# Altium schematic symbol library ComponentsLIB.SchLib: 16 symbols
Pins are listed as number, name and electrical type; pins without a type are passive.

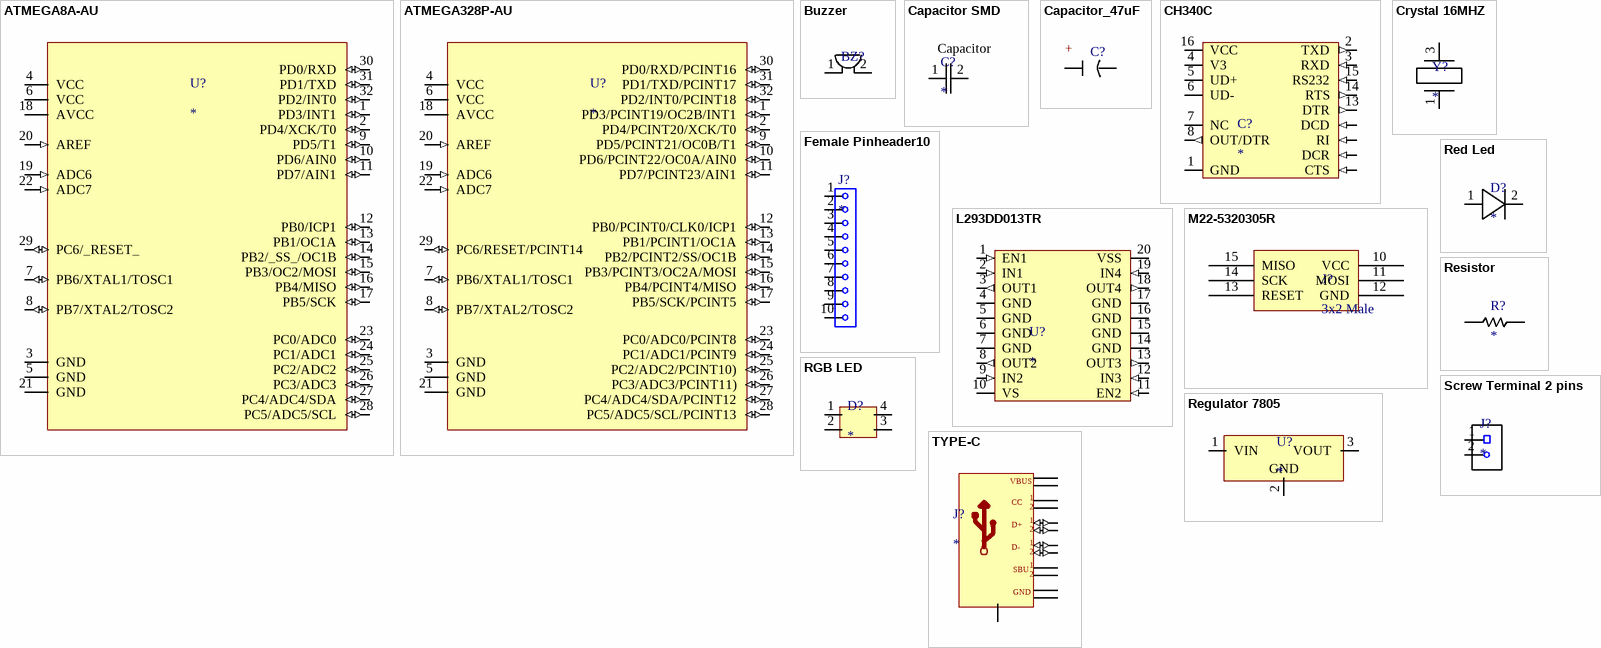
[diagram p0: symbols ATMEGA8A-AU to TYPE-C]

## ATMEGA8A-AU
designator U?
8KB 1KB FLASH 23 2.7V~5.5V AVR 16MHz TQFP-32(7x7) Microcontrollers (MCU/MPU/SOC) ROHS; Manufacturer: Microchip Tech; Manufacturer Part Number: ATMEGA8A-AU; Supplier: LSCS ELECTRONICS; Supplier Part Number: C16190
footprint ATMEGA8A-AU
pins: 1 PD3/INT1 (io), 2 PD4/XCK/T0 (io), 3 GND (power), 4 VCC (power), 5 GND (power), 6 VCC (power), 7 PB6/XTAL1/TOSC1 (io), 8 PB7/XTAL2/TOSC2 (io), 9 PD5/T1 (io), 10 PD6/AIN0 (io), 11 PD7/AIN1 (io), 12 PB0/ICP1 (io), 13 PB1/OC1A (io), 14 PB2/_SS_/OC1B (io), 15 PB3/OC2/MOSI (io), 16 PB4/MISO (io), 17 PB5/SCK (io), 18 AVCC (power), 19 ADC6 (in), 20 AREF (in), 21 GND (power), 22 ADC7 (in), 23 PC0/ADC0 (io), 24 PC1/ADC1 (io), 25 PC2/ADC2 (io), 26 PC3/ADC3 (io), 27 PC4/ADC4/SDA (io), 28 PC5/ADC5/SCL (io), 29 PC6/_RESET_ (io), 30 PD0/RXD (io), 31 PD1/TXD (io), 32 PD2/INT0 (io)

## ATMEGA328P-AU
designator U?
32KB 2KB FLASH 23 1.8V~5.5V AVR 20MHz TQFP-32(7x7) Microcontrollers (MCU/MPU/SOC) ROHS; Manufacturer: Microchip Tech; Manufacturer Part Number: ATMEGA328P-AU; Supplier: LSCS ELECTRONICS; Supplier Part Number: C14877
footprint ATMEGA328P-AU
pins: 1 PD3/PCINT19/OC2B/INT1 (io), 2 PD4/PCINT20/XCK/T0 (io), 3 GND (power), 4 VCC (power), 5 GND (power), 6 VCC (power), 7 PB6/XTAL1/TOSC1 (io), 8 PB7/XTAL2/TOSC2 (io), 9 PD5/PCINT21/OC0B/T1 (io), 10 PD6/PCINT22/OC0A/AIN0 (io), 11 PD7/PCINT23/AIN1 (io), 12 PB0/PCINT0/CLK0/ICP1 (io), 13 PB1/PCINT1/OC1A (io), 14 PB2/PCINT2/SS/OC1B (io), 15 PB3/PCINT3/OC2A/MOSI (io), 16 PB4/PCINT4/MISO (io), 17 PB5/SCK/PCINT5 (io), 18 AVCC (power), 19 ADC6 (in), 20 AREF (in), 21 GND (power), 22 ADC7 (in), 23 PC0/ADC0/PCINT8 (io), 24 PC1/ADC1/PCINT9 (io), 25 PC2/ADC2/PCINT10) (io), 26 PC3/ADC3/PCINT11) (io), 27 PC4/ADC4/SDA/PCINT12 (io), 28 PC5/ADC5/SCL/PCINT13 (io), 29 PC6/RESET/PCINT14 (io), 30 PD0/RXD/PCINT16 (io), 31 PD1/TXD/PCINT17 (io), 32 PD2/INT0/PCINT18 (io)

## Buzzer
designator BZ?  (value not drawn)
Manufacturer: KINGSTATE; Manufacturer Part Number: KXG1205C; Supplier: LCSC; Supplier Part Number: C1122355
footprint Buzzer
pins: 1 +, 2 -

## Capacitor SMD
designator C?
10V 10uF X7R ±20% 0805 Multilayer Ceramic Capacitors MLCC - SMD/SMT ROHS; Manufacturer: Samwha Capacitor; Manufacturer Part Number: CS2012X7R106M100NRE; Supplier: LCSC; Supplier Part Number: C5189822
footprint Capacitor SMD (Molded Capacitor, 2-Leads, Body 2.00x1.25mm, IPC Medium Density_10V 10uF X7R ±20% 0805 Multilayer Ceramic Capacitors MLCC - SMD/SMT ROHS)
pins: 1, 2
text: Capacitor

## Capacitor_47uF
designator C?  (value not drawn)
47uF 16V ±20% Plugin,D5xL11.5mm Aluminum Electrolytic Capacitors - Leaded ROHS; Manufacturer: Nantong Jianghai Capacitor; Manufacturer Part Number: ECR1CGK470MFA050011; Supplier: LCSC; Supplier Part Number: C235884
footprint Capacitor_47uF (47uF 16V ±20% Plugin,D6.3xL11.5mm Aluminum Electrolytic Capacitors - Leaded ROHS)
pins: 1, 2
text: +

## CH340C
designator C?
2Mbps Transceiver USB 2.0 SOP-16 USB Converters ROHS; Manufacturer: Korean Hroparts Elec; Manufacturer Part Number: CH340C; Supplier: LSCS ELECTRONICS; Supplier Part Number: C84681
footprint CH340C
pins: 1 GND (power), 2 TXD (out), 3 RXD (in), 4 V3, 5 UD+, 6 UD-, 7 NC (power), 8 OUT/DTR (out), 9 CTS (in), 10 DCR (in), 11 RI (in), 12 DCD (in), 13 DTR (out), 14 RTS (out), 15 RS232 (in), 16 VCC (power)

## Crystal 16MHZ
designator Y?
4.5V~5.5V ±50ppm 20mA 16MHz CMOS SMD5032-4P Crystal Oscillators ROHS; Manufacturer: Seiko Epson; Manufacturer Part Number: X1G0044710006; Supplier: LSCS ELECTRONICS; Supplier Part Number: C963334
footprint Crystal 16MHZ
pins: 1, 3

## Female Pinheader10
designator J?
Tin 3A Direct Insert 2.54mm -65℃~+125℃ 2.54mm Single Row Black Phosphor Bronze Plugin,P=2.54mm Pin Headers ROHS; Manufacturer: Amphenol ICC; Manufacturer Part Number: 54101-T0600LF; Supplier: LSCS ELECTRONICS; Supplier Part Number: C240305
footprint Female Pinheader10
pins: 1, 2, 3, 4, 5, 6, 7, 8, 9, 10

## L293DD013TR
designator U?
SOIC-20-300mil Stepper Motor Driver ROHS; Manufacturer: STMicroelectronics; Manufacturer Part Number: L293DD013TR; Supplier: LSCS ELECTRONICS; Supplier Part Number: C21610
footprint L293DD013TR
pins: 1 EN1 (in), 2 IN1 (in), 3 OUT1 (out), 4 GND (power), 5 GND (power), 6 GND (power), 7 GND (power), 8 OUT2 (out), 9 IN2 (in), 10 VS (power), 11 EN2 (in), 12 IN3 (in), 13 OUT3 (out), 14 GND (power), 15 GND (power), 16 GND (power), 17 GND (power), 18 OUT4 (out), 19 IN4 (in), 20 VSS (power)

## M22-5320305R
designator J?, comment 3x2 Male
Headers & Wire Housings 3+3 DIL VRT HDR GOLD 800PC REEL; Manufacturer Product Number: M22-5320305R; Manufacturer: Harwin Inc.; DigiKey Part Number: 952-M22-5320305RCT-ND; distributor: DigiKey
footprint 3x2 Male
pins: 10 VCC, 11 MOSI, 12 GND, 13 RESET, 14 SCK, 15 MISO

## Red Led
designator D?
20mA White Lens 17mcd 639nm Red 170° 1.8V 0603 LED Indication - Discrete ROHS; Manufacturer: Broadcom/AVAGO; Manufacturer Part Number: HSMH-C170; Supplier: LSCS ELECTRONICS; Supplier Part Number: C188731
footprint Red LED
pins: 1 +ve, 2 -ve

## Regulator 7805
designator U?
62dB@(120Hz) 1.5A Fixed 5V Positive electrode 35V TO-263-2 Voltage Regulators - Linear, Low Drop Out (LDO) Regulators ROHS; Manufacturer: STMicroelectronics; Manufacturer Part Number: L7805CD2T-TR; Supplier: LSCS ELECTRONICS; Supplier Part Number: C15077
footprint Regulator 7805
pins: 1 VIN, 2 GND, 3 VOUT

## Resistor
designator R?
Chip Resistor, 2-Leads, Body 2.05x1.25mm, IPC Medium Density; Manufacturer: CCO(Chian Chia Elec); Manufacturer Part Number: CF1/4W-330Ω±5% T; Supplier: LSCS ELECTRONICS; Supplier Part Number: C120043
footprint R0805 (Chip Resistor, 2-Leads, Body 2.05x1.25mm, IPC Medium Density)
footprint R0805 (Chip Resistor, 2-Leads, Body 2.05x1.25mm, IPC Medium Density)
pins: 1, 2

## RGB LED
designator D?
Manufacturer: Worldsemi; Manufacturer Part Number: WS2812B-B/W; Supplier: LSCS ELECTRONICS; Supplier Part Number: C114586
footprint RGB LED
pins: 1 VSS, 2 DOUT, 3 GND, 4 DIN

## Screw Terminal 2 pins
designator J?
Brass Alloy 1x2P 16A -40℃~+105℃ 300V Blue Tin 12~24 Direct Insert 5.08mm 1 2 Plugin,P=5.08mm Screw Terminal Blocks ROHS; Manufacturer: CUI; Manufacturer Part Number: TB004-508-02BE; Supplier: LSCS ELECTRONICS; Supplier Part Number: C3818636
footprint Screw Terminal 2 pins
pins: 1, 2

## TYPE-C
designator J?
5A 1 16P Female Type-C SMD USB Connectors ROHS; Manufacturer: Korean Hroparts Elec; Manufacturer Part Number: TYPE-C-31-M-12; Supplier: LSCS ELECTRONICS; Supplier Part Number: C165948
footprint TYPE-C
pins: 13, A1B12 GND (power), A4B9 VBUS (power), A5 CC1 (power), A6 DP1 (io), A7 DN1 (io), A8 SBU1 (power), A9B4 VBUS (power), A12B1 GND (power), B5 CC2 (power), B6 DP2 (io), B7 DN2 (io), B8 SBU2 (power)
text: 1; CC; 2; D+; D-; SBU